# Altium footprint library TDK.PcbLib: 3 footprints
Each footprint in its own frame and in the unit in brackets; x right, y up, seen from the top. Pads: shape width x height; smd on the part's side, far side on the other; paste and mask are expansions set on the pad; w line width, h text height; cw(c..) or ccw(c..) is an arc to the next point about the centre after c.
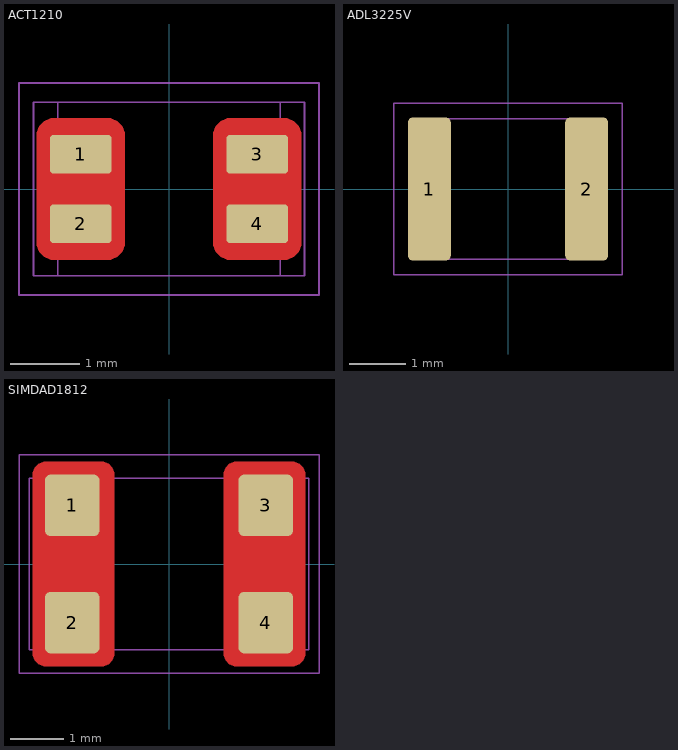
[diagram p0: the footprints below, top view; thin cyan lines are the x and y axes]

## ACT1210 [mil]
pads (4):
  rrect20% 35x22 smd mask+2: 1(-50,19.68) 2(-50,-19.68) 3(50,19.68) 4(50,-19.68)
Top Layer:
  pour cut-out: 75,30 75,-30 75,-31.99 73.48,-35.66 70.66,-38.48 66.99,-40 65,-40 35,-40 33.01,-40 29.34,-38.48 26.52,-35.66 25,-31.99 25,-30 25,30 25,31.99 26.52,35.66 29.34,38.48 33.01,40 35,40 65,40 66.99,40 70.66,38.48 73.48,35.66 75,31.99
  pour cut-out: -75,30 -75,-30 -75,-31.99 -73.48,-35.66 -70.66,-38.48 -66.99,-40 -65,-40 -35,-40 -33.01,-40 -29.34,-38.48 -26.52,-35.66 -25,-31.99 -25,-30 -25,30 -25,31.99 -26.52,35.66 -29.34,38.48 -33.01,40 -35,40 -65,40 -66.99,40 -70.66,38.48 -73.48,35.66 -75,31.99
Top Component Outline:
  lines w1: -85,-60 85,-60 85,60 -85,60 -85,-60
Top 3D Body (Mech16):
  lines w1: -62.99,-49.21 -62.99,49.21 ; 62.99,-49.21 62.99,49.21 ; -76.77,-49.21 76.77,-49.21 76.77,49.21 -76.77,49.21 -76.77,-49.21
3D body: height 98.43, standoff 0, extent -62.99,-49.21 62.99,49.21

## ADL3225V [mil]
pads (2):
  rrect20% 30x100 smd paste-3 mask+2: 1(-55.12,0) 2(55.11,0)
Top Component Outline:
  lines w1: -80,-60 -80,60 80,60 80,-60 -80,-60
Top 3D Body (Mech16):
  lines w1: -47.24,-49.21 -47.24,49.21 ; 47.24,-49.21 47.24,49.21 ; -62.99,-49.21 62.99,-49.21 62.99,49.21 -62.99,49.21 -62.99,-49.21
3D body: height 10, standoff 0, extent -62.99,-49.21 -47.24,49.21
3D body: height 80.5, standoff 79.5, extent -36,-2.5 -31,2.5
3D body: height 94.49, standoff 74.8, extent -62.99,-49.21 62.99,49.21
3D body: height 75, standoff 15, extent -51,-47 51,47
3D body: height 74.8, standoff 10, extent -62.99,-49.21 -47.24,49.21
3D body: height 74.8, standoff 10, extent 47.24,-49.21 62.99,49.21
3D body: height 10, standoff 0, extent 47.24,-49.21 62.99,49.21

## SIMDAD1812 [mil]
pads (4):
  rrect20% 40x45 smd mask+2: 1(-71,43) 2(-71,-43) 3(71,43) 4(71,-43)
Top Layer:
  pour cut-out: -90,-75 -50,-75 -48.01,-75 -44.34,-73.48 -41.52,-70.66 -40,-66.99 -40,-65 -40,65 -40,66.99 -41.52,70.66 -44.34,73.48 -48.01,75 -50,75 -90,75 -91.99,75 -95.66,73.48 -98.48,70.66 -100,66.99 -100,65 -100,-65 -100,-66.99 -98.48,-70.66 -95.66,-73.48 -91.99,-75
  pour cut-out: 90,-75 50,-75 48.01,-75 44.34,-73.48 41.52,-70.66 40,-66.99 40,-65 40,65 40,66.99 41.52,70.66 44.34,73.48 48.01,75 50,75 90,75 91.99,75 95.66,73.48 98.48,70.66 100,66.99 100,65 100,-65 100,-66.99 98.48,-70.66 95.66,-73.48 91.99,-75
Top Component Outline:
  lines w1: -110,-80 -110,80 110,80 110,-80 -110,-80
Top 3D Body (Mech16):
  lines w1: -88.58,-62.99 -88.58,62.99 ; -88.58,-23.62 -54.72,-23.62 -54.72,-62.99 ; -88.58,23.62 -54.72,23.62 -54.72,62.99 ; 54.72,-62.99 54.72,-23.62 88.58,-23.62 ; 54.72,62.99 54.72,23.62 88.58,23.62 ; 88.58,-62.99 88.58,62.99 ; -102.36,-62.99 -102.36,62.99 102.36,62.99 102.36,-62.99 -102.36,-62.99
3D body: height 118.11, standoff 0, extent -102.36,-62.99 102.36,62.99